# Altium footprint library MicroSD.PcbLib: 2 footprints
Each footprint in its own frame and in the unit in brackets; x right, y up, seen from the top. Pads: shape width x height; smd on the part's side, far side on the other; paste and mask are expansions set on the pad; w line width, h text height; cw(c..) or ccw(c..) is an arc to the next point about the centre after c.
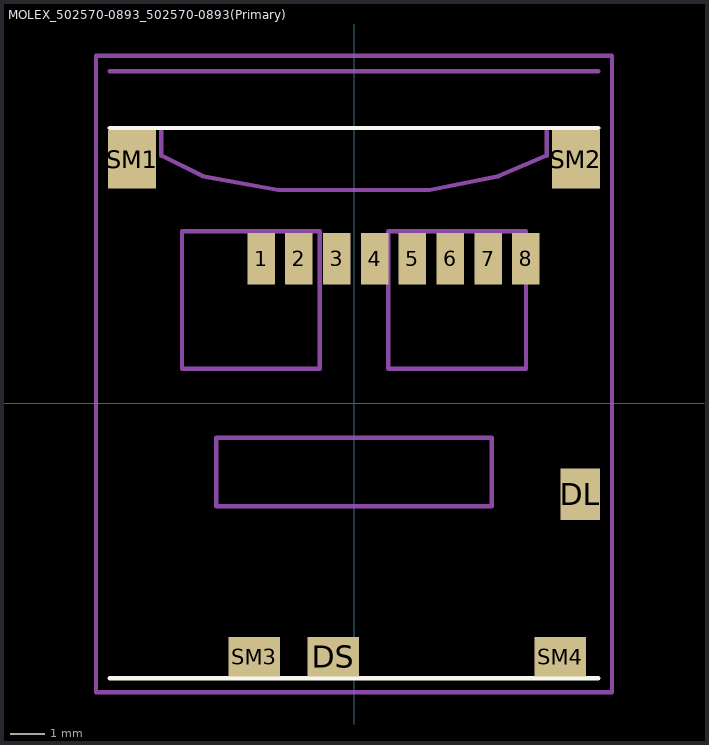
[diagram p0: the footprints below, top view; thin cyan lines are the x and y axes]

## MOLEX_502570-0893_502570-0893(Primary) [mm]
pads (14):
  rect 0.8x1.5 smd: 1(-2.7,4.2) 2(-1.6,4.2) 3(-0.5,4.2) 4(0.6,4.2) 5(1.7,4.2) 6(2.8,4.2) 7(3.9,4.2) 8(5,4.2)
  rect 1.15x1.5 smd: DL(6.575,-2.65)
  rect 1.5x1.15 smd: DS(-0.6,-7.375) SM3(-2.9,-7.375) SM4(6,-7.375)
  rect 1.4x1.7 smd: SM1(-6.45,7.1) SM2(6.45,7.1)
Top Overlay:
  lines w0.127: -7.1,-8 7.1,-8 ; -7.1,8 7.1,8
Mechanical 4:
  lines w0.127: -5.6,7.2 -4.4,6.6 ; -5.6,7.2 -5.6,7.9 -5.6,7.2 ; -5.6,7.2 -4.4,6.6 ; -5,1 -1,1 ; -5,1 -5,5 ; -5,1 -1,1 ; -5,1 -5,5 ; -5,5 -1,5 ; -5,5 -1,5 ; -4.4,6.6 -2.2,6.2 ; -4.4,6.6 -2.2,6.2 ; -4,-3 4,-3 ; -4,-3 -4,-1 ; -4,-3 4,-3 ; -4,-3 -4,-1 ; -4,-1 4,-1 ; -4,-1 4,-1 ; -2.2,6.2 2.2,6.2 ; -2.2,6.2 2.2,6.2 ; -1,1 -1,5 ; -1,1 -1,5 ; 1,1 1,5 ; 1,1 5,1 ; 1,1 1,5 ; 1,1 5,1 ; 1,5 5,5 ; 1,5 5,5 ; 2.2,6.2 4.2,6.6 ; 2.2,6.2 4.2,6.6 ; 4,-3 4,-1 ; 4,-3 4,-1 ; 4.2,6.6 5.6,7.2 ; 4.2,6.6 5.6,7.2 ; 5,1 5,5 ; 5,1 5,5 ; 5.6,7.2 5.6,7.9 5.6,7.2 ; -7.1,9.65 7.1,9.65 -7.1,9.65
  text "Card Lock Position" at 2.101,9.555 h1.88
  text "Card Lock Position" at 2.101,9.555 h1.88
Mechanical 16:
  lines w0.127: -7.5,-8.4 7.5,-8.4 7.5,10.1 -7.5,10.1 -7.5,-8.4

## PCBComponent_1 [mm]